# Altium schematic symbol library HDR_1X2_A.SchLib: 1 symbol
Pins are listed as number, name and electrical type; pins without a type are passive.

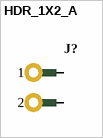
[diagram p0: symbol HDR_1X2_A]

## HDR_1X2_A
designator J?  (no BOM)
pins: 1, 2
1 alternate drawing of the same symbol